# Altium schematic symbol library Modules.SchLib: 71 symbols
Pins are listed as number, name and electrical type; pins without a type are passive.

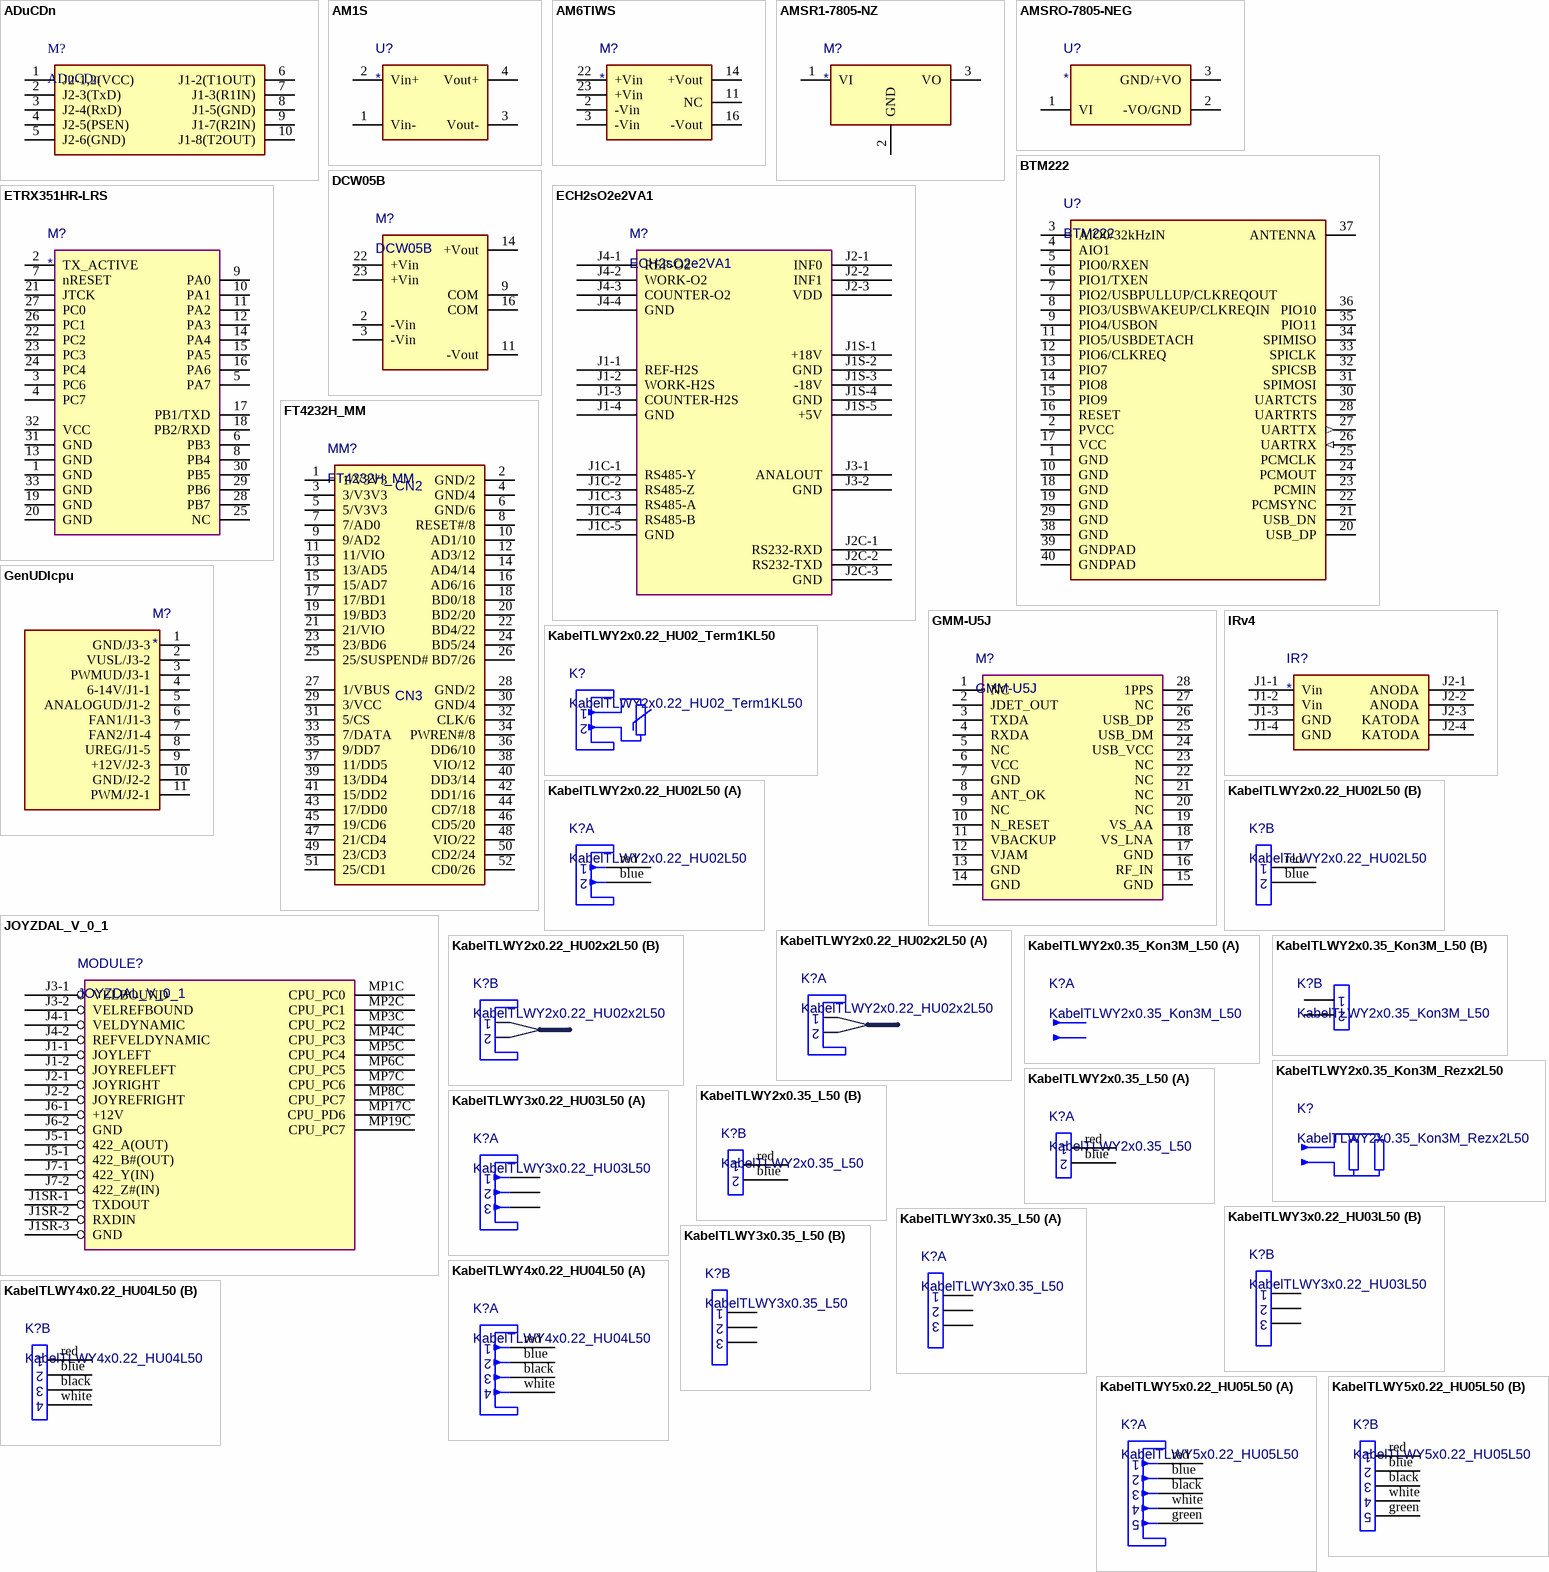
[diagram p0: symbols ADuCDn to KabelTLWY5x0.22_HU05L50]

## ADuCDn
designator M?
Value: ADuCDn
pins: 1 J2-1,2(VCC), 2 J2-3(TxD), 3 J2-4(RxD), 4 J2-5(PSEN), 5 J2-6(GND), 6 J1-2(T1OUT), 7 J1-3(R1IN), 8 J1-5(GND), 9 J1-7(R2IN), 10 J1-8(T2OUT)

## AM1S
designator U?
Value: *
pins: 1 Vin-, 2 Vin+, 3 Vout-, 4 Vout+

## AM6TIWS
designator M?
Value: *
pins: 2 -Vin, 3 -Vin, 11 NC, 14 +Vout, 16 -Vout, 22 +Vin, 23 +Vin

## AMSR1-7805-NZ
designator M?
Value: *
pins: 1 VI, 2 GND, 3 VO

## AMSRO-7805-NEG
designator U?
Value: *
pins: 1 VI, 2 -VO/GND, 3 GND/+VO

## BTM222
designator U?
Value: BTM222
pins: 1 GND, 2 PVCC, 3 AIO0/32kHzIN, 4 AIO1, 5 PIO0/RXEN, 6 PIO1/TXEN, 7 PIO2/USBPULLUP/CLKREQOUT, 8 PIO3/USBWAKEUP/CLKREQIN, 9 PIO4/USBON, 10 GND, 11 PIO5/USBDETACH, 12 PIO6/CLKREQ, 13 PIO7, 14 PIO8, 15 PIO9, 16 RESET, 17 VCC, 18 GND, 19 GND, 20 USB_DP, 21 USB_DN, 22 PCMSYNC, 23 PCMIN, 24 PCMOUT, 25 PCMCLK, 26 UARTRX (in), 27 UARTTX (out), 28 UARTRTS, 29 GND, 30 UARTCTS, 31 SPIMOSI, 32 SPICSB, 33 SPICLK, 34 SPIMISO, 35 PIO11, 36 PIO10, 37 ANTENNA, 38 GND, 39 GNDPAD, 40 GNDPAD

## DCW05B
designator M?
Value: DCW05B
pins: 2 -Vin, 3 -Vin, 9 COM, 11 -Vout, 14 +Vout, 16 COM, 22 +Vin, 23 +Vin

## ECH2sO2e2VA1
designator M?
Value: ECH2sO2e2VA1
pins: J1-1 REF-H2S, J1-2 WORK-H2S, J1-3 COUNTER-H2S, J1-4 GND, J1C-1 RS485-Y, J1C-2 RS485-Z, J1C-3 RS485-A, J1C-4 RS485-B, J1C-5 GND, J1S-1 +18V, J1S-2 GND, J1S-3 -18V, J1S-4 GND, J1S-5 +5V, J2-1 INF0, J2-2 INF1, J2-3 VDD, J2C-1 RS232-RXD, J2C-2 RS232-TXD, J2C-3 GND, J3-1 ANALOUT, J3-2 GND, J4-1 REF-O2, J4-2 WORK-O2, J4-3 COUNTER-O2, J4-4 GND

## ETRX351HR-LRS
designator M?
Value: *
pins: 1 GND, 2 TX_ACTIVE, 3 PC6, 4 PC7, 5 PA7, 6 PB3, 7 nRESET, 8 PB4, 9 PA0, 10 PA1, 11 PA2, 12 PA3, 13 GND, 14 PA4, 15 PA5, 16 PA6, 17 PB1/TXD, 18 PB2/RXD, 19 GND, 20 GND, 21 JTCK, 22 PC2, 23 PC3, 24 PC4, 25 NC, 26 PC1, 27 PC0, 28 PB7, 29 PB6, 30 PB5, 31 GND, 32 VCC, 33 GND

## FT4232H_MM
designator MM?
Value: FT4232H_MM
pins: 1 1/V3V3, 2 GND/2, 3 3/V3V3, 4 GND/4, 5 5/V3V3, 6 GND/6, 7 7/AD0, 8 RESET#/8, 9 9/AD2, 10 AD1/10, 11 11/VIO, 12 AD3/12, 13 13/AD5, 14 AD4/14, 15 15/AD7, 16 AD6/16, 17 17/BD1, 18 BD0/18, 19 19/BD3, 20 BD2/20, 21 21/VIO, 22 BD4/22, 23 23/BD6, 24 BD5/24, 25 25/SUSPEND#, 26 BD7/26, 27 1/VBUS, 28 GND/2, 29 3/VCC, 30 GND/4, 31 5/CS, 32 CLK/6, 33 7/DATA, 34 PWREN#/8, 35 9/DD7, 36 DD6/10, 37 11/DD5, 38 VIO/12, 39 13/DD4, 40 DD3/14, 41 15/DD2, 42 DD1/16, 43 17/DD0, 44 CD7/18, 45 19/CD6, 46 CD5/20, 47 21/CD4, 48 VIO/22, 49 23/CD3, 50 CD2/24, 51 25/CD1, 52 CD0/26
text: CN2; CN3

## GenUDIcpu
designator M?
Value: *
pins: 1 GND/J3-3, 2 VUSL/J3-2, 3 PWMUD/J3-1, 4 6-14V/J1-1, 5 ANALOGUD/J1-2, 6 FAN1/J1-3, 7 FAN2/J1-4, 8 UREG/J1-5, 9 +12V/J2-3, 10 GND/J2-2, 11 PWM/J2-1

## GMM-U5J
designator M?
Value: GMM-U5J
pins: 1 NC, 2 JDET_OUT, 3 TXDA, 4 RXDA, 5 NC, 6 VCC, 7 GND, 8 ANT_OK, 9 NC, 10 N_RESET, 11 VBACKUP, 12 VJAM, 13 GND, 14 GND, 15 GND, 16 RF_IN, 17 GND, 18 VS_LNA, 19 VS_AA, 20 NC, 21 NC, 22 NC, 23 NC, 24 USB_VCC, 25 USB_DM, 26 USB_DP, 27 NC, 28 1PPS

## IRv4
designator IR?
Value: *
pins: J1-1 Vin, J1-2 Vin, J1-3 GND, J1-4 GND, J2-1 ANODA, J2-2 ANODA, J2-3 KATODA, J2-4 KATODA

## JOYZDAL_V_0_1
designator MODULE?
Value: JOYZDAL_V_0_1
pins: J1-1 JOYLEFT, J1-2 JOYREFLEFT, J1SR-1 TXDOUT, J1SR-2 RXDIN, J1SR-3 GND, J2-1 JOYRIGHT, J2-2 JOYREFRIGHT, J3-1 VELBOUND, J3-2 VELREFBOUND, J4-1 VELDYNAMIC, J4-2 REFVELDYNAMIC, J5-1 422_A(OUT), J5-1 422_B#(OUT), J6-1 +12V, J6-2 GND, J7-1 422_Y(IN), J7-2 422_Z#(IN), MP1C CPU_PC0, MP2C CPU_PC1, MP3C CPU_PC2, MP4C CPU_PC3, MP5C CPU_PC4, MP6C CPU_PC5, MP7C CPU_PC6, MP8C CPU_PC7, MP17C CPU_PD6, MP19C CPU_PC7

## KabelTLWY2x0.22_HU02_Term1KL50
designator K?
Value: KabelTLWY2x0.22_HU02_Term1KL50
text: 1; 2

## KabelTLWY2x0.22_HU02L50
designator K?
Value: KabelTLWY2x0.22_HU02L50
part A pins: blue GND, red
part B pins: blue GND, red
part A text: 1; 2
part B text: 1; 2

## KabelTLWY2x0.22_HU02x2L50
designator K?
Value: KabelTLWY2x0.22_HU02x2L50
part A text: 1; 2
part B text: 1; 2

## KabelTLWY2x0.35_Kon3M_L50
designator K?
Value: KabelTLWY2x0.35_Kon3M_L50
part B pins: 9 GND, 10 GND
part B text: 1; 2

## KabelTLWY2x0.35_Kon3M_Rezx2L50
designator K?
Value: KabelTLWY2x0.35_Kon3M_Rezx2L50

## KabelTLWY2x0.35_L50
designator K?
Value: KabelTLWY2x0.35_L50
part A pins: blue GND, red
part B pins: blue GND, red
part A text: 1; 2
part B text: 1; 2

## KabelTLWY3x0.22_HU03L50
designator K?
Value: KabelTLWY3x0.22_HU03L50
part A pins: 9 GND, 9 GND, 10 GND
part B pins: 9 GND, 10 GND, 10 GND
part A text: 1; 2; 3
part B text: 1; 2; 3

## KabelTLWY3x0.35_L50
designator K?
Value: KabelTLWY3x0.35_L50
part A pins: 9 GND, 10 GND, 10 GND
part B pins: 9 GND, 10 GND, 10 GND
part A text: 1; 2; 3
part B text: 1; 2; 3

## KabelTLWY4x0.22_HU04L50
designator K?
Value: KabelTLWY4x0.22_HU04L50
part A pins: black GND, blue GND, red, white GND
part B pins: black GND, blue GND, red, white GND
part A text: 1; 2; 3; 4
part B text: 1; 2; 3; 4

## KabelTLWY5x0.22_HU05L50
designator K?
Value: KabelTLWY5x0.22_HU05L50
part A pins: black GND, blue GND, green GND, red, white GND
part B pins: black GND, blue GND, green GND, red, white GND
part A text: 1; 2; 3; 4; 5
part B text: 1; 2; 3; 4; 5

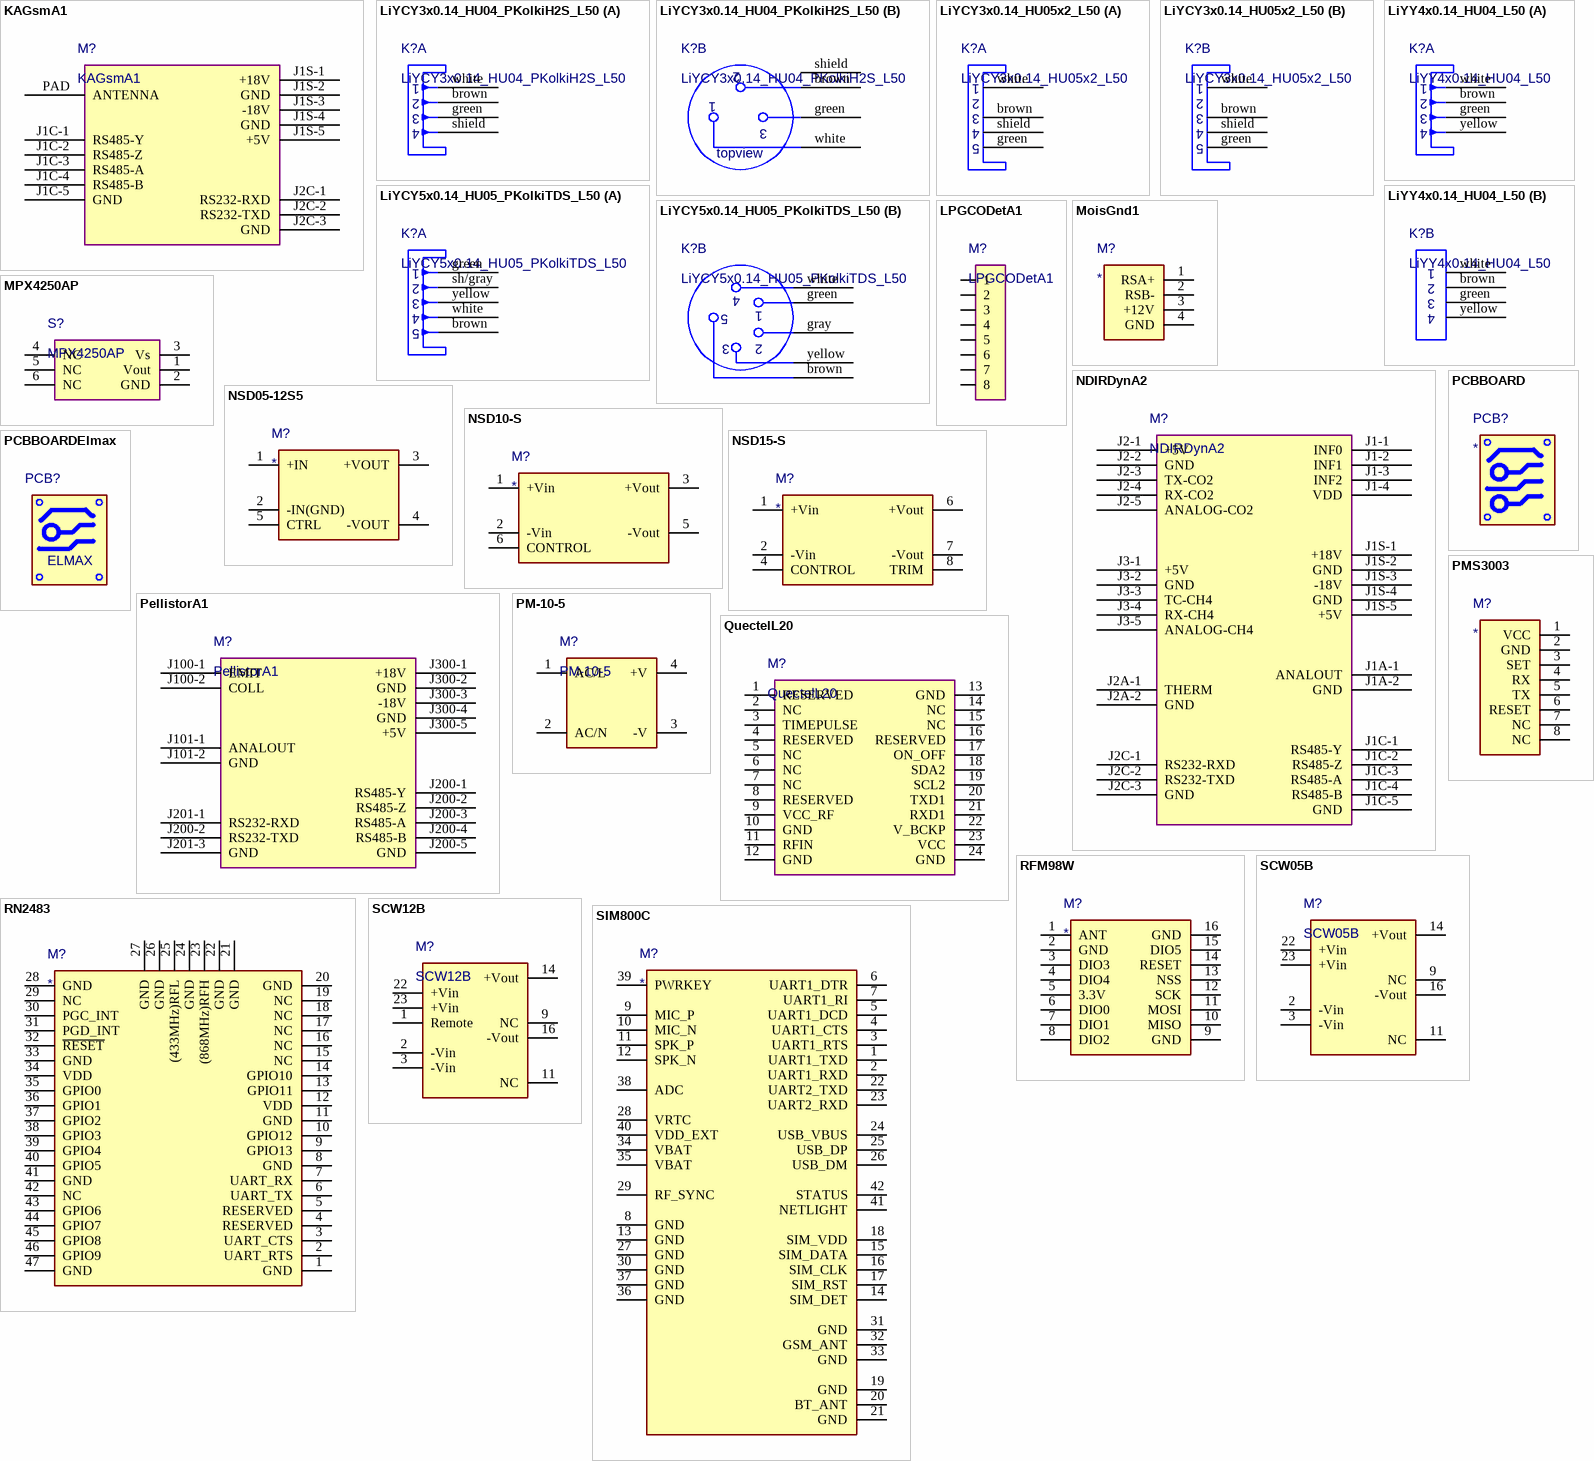
[diagram p1: symbols KAGsmA1 to SIM800C]

## KAGsmA1
designator M?
Value: KAGsmA1
pins: J1C-1 RS485-Y, J1C-2 RS485-Z, J1C-3 RS485-A, J1C-4 RS485-B, J1C-5 GND, J1S-1 +18V, J1S-2 GND, J1S-3 -18V, J1S-4 GND, J1S-5 +5V, J2C-1 RS232-RXD, J2C-2 RS232-TXD, J2C-3 GND, PAD ANTENNA

## LiYCY3x0.14_HU04_PKolkiH2S_L50
designator K?
Value: LiYCY3x0.14_HU04_PKolkiH2S_L50
part A pins: brown, green, shield, white
part B pins: brown, green, shield, white
part A text: 1; 2; 3; 4
part B text: 2; 1; 3; topview

## LiYCY3x0.14_HU05x2_L50
designator K?
Value: LiYCY3x0.14_HU05x2_L50
part A pins: brown GND, green GND, shield GND, white GND
part B pins: brown GND, green GND, shield GND, white GND
part A text: 1; 2; 3; 4; 5
part B text: 1; 2; 3; 4; 5

## LiYCY5x0.14_HU05_PKolkiTDS_L50
designator K?
Value: LiYCY5x0.14_HU05_PKolkiTDS_L50
part A pins: brown, green, sh/gray shield/gray, white, yellow
part B pins: brown, gray, green, white, yellow
part A text: 1; 2; 3; 4; 5
part B text: 4; 5; 1; 3; 2

## LiYY4x0.14_HU04_L50
designator K?
Value: LiYY4x0.14_HU04_L50
part A pins: brown, green, white, yellow
part B pins: brown, green, white, yellow
part A text: 1; 2; 3; 4
part B text: 1; 2; 3; 4

## LPGCODetA1
designator M?
Value: LPGCODetA1
pins: 1, 2, 3, 4, 5, 6, 7, 8

## MoisGnd1
designator M?
Value: *
pins: 1 RSA+, 2 RSB-, 3 +12V, 4 GND

## MPX4250AP
designator S?
Value: MPX4250AP
pins: 1 Vout, 2 GND, 3 Vs, 4 NC, 5 NC, 6 NC

## NDIRDynA2
designator M?
Value: NDIRDynA2
pins: J1-1 INF0, J1-2 INF1, J1-3 INF2, J1-4 VDD, J1A-1 ANALOUT, J1A-2 GND, J1C-1 RS485-Y, J1C-2 RS485-Z, J1C-3 RS485-A, J1C-4 RS485-B, J1C-5 GND, J1S-1 +18V, J1S-2 GND, J1S-3 -18V, J1S-4 GND, J1S-5 +5V, J2-1 +5V, J2-2 GND, J2-3 TX-CO2, J2-4 RX-CO2, J2-5 ANALOG-CO2, J2A-1 THERM, J2A-2 GND, J2C-1 RS232-RXD, J2C-2 RS232-TXD, J2C-3 GND, J3-1 +5V, J3-2 GND, J3-3 TC-CH4, J3-4 RX-CH4, J3-5 ANALOG-CH4

## NSD05-12S5
designator M?
Value: *
pins: 1 +IN, 2 -IN(GND), 3 +VOUT, 4 -VOUT, 5 CTRL

## NSD10-S
designator M?
Value: *
pins: 1 +Vin, 2 -Vin, 3 +Vout, 5 -Vout, 6 CONTROL

## NSD15-S
designator M?
Value: *
pins: 1 +Vin, 2 -Vin, 4 CONTROL, 6 +Vout, 7 -Vout, 8 TRIM

## PCBBOARD
designator PCB?  (mechanical)
Value: *

## PCBBOARDElmax
designator PCB?  (value not drawn)  (mechanical)
Value: *
text: ELMAX

## PellistorA1
designator M?
Value: PellistorA1
pins: J100-1 EMIT, J100-2 COLL, J101-1 ANALOUT, J101-2 GND, J200-1 RS485-Y, J200-2 RS485-Z, J200-2 RS232-TXD, J200-3 RS485-A, J200-4 RS485-B, J200-5 GND, J201-1 RS232-RXD, J201-3 GND, J300-1 +18V, J300-2 GND, J300-3 -18V, J300-4 GND, J300-5 +5V

## PM-10-5
designator M?
Value: PM-10-5
pins: 1 AC/L, 2 AC/N, 3 -V, 4 +V

## PMS3003
designator M?
Value: *
pins: 1 VCC, 2 GND, 3 SET, 4 RX, 5 TX, 6 RESET, 7 NC, 8 NC

## QuectelL20
designator M?
Value: QuectelL20
pins: 1 RESERVED, 2 NC, 3 TIMEPULSE, 4 RESERVED, 5 NC, 6 NC, 7 NC, 8 RESERVED, 9 VCC_RF, 10 GND, 11 RFIN, 12 GND, 13 GND, 14 NC, 15 NC, 16 RESERVED, 17 ON_OFF, 18 SDA2, 19 SCL2, 20 TXD1, 21 RXD1, 22 V_BCKP, 23 VCC, 24 GND

## RFM98W
designator M?
Value: *
pins: 1 ANT, 2 GND, 3 DIO3, 4 DIO4, 5 3.3V, 6 DIO0, 7 DIO1, 8 DIO2, 9 GND, 10 MISO, 11 MOSI, 12 SCK, 13 NSS, 14 RESET, 15 DIO5, 16 GND

## RN2483
designator M?
Value: *
pins: 1 GND, 2 UART_RTS, 3 UART_CTS, 4 RESERVED, 5 RESERVED, 6 UART_TX, 7 UART_RX, 8 GND, 9 GPIO13, 10 GPIO12, 11 GND, 12 VDD, 13 GPIO11, 14 GPIO10, 15 NC, 16 NC, 17 NC, 18 NC, 19 NC, 20 GND, 21 GND, 22 GND, 23 (868MHz)RFH, 24 GND, 25 (433MHz)RFL, 26 GND, 27 GND, 28 GND, 29 NC, 30 PGC_INT, 31 PGD_INT, 32 ~{RESET}, 33 GND, 34 VDD, 35 GPIO0, 36 GPIO1, 37 GPIO2, 38 GPIO3, 39 GPIO4, 40 GPIO5, 41 GND, 42 NC, 43 GPIO6, 44 GPIO7, 45 GPIO8, 46 GPIO9, 47 GND

## SCW05B
designator M?
Value: SCW05B
pins: 2 -Vin, 3 -Vin, 9 NC, 11 NC, 14 +Vout, 16 -Vout, 22 +Vin, 23 +Vin

## SCW12B
designator M?
Value: SCW12B
pins: 1 Remote, 2 -Vin, 3 -Vin, 9 NC, 11 NC, 14 +Vout, 16 -Vout, 22 +Vin, 23 +Vin

## SIM800C
designator M?
Value: *
pins: 1 UART1_TXD, 2 UART1_RXD, 3 UART1_RTS, 4 UART1_CTS, 5 UART1_DCD, 6 UART1_DTR, 7 UART1_RI, 8 GND, 9 MIC_P, 10 MIC_N, 11 SPK_P, 12 SPK_N, 13 GND, 14 SIM_DET, 15 SIM_DATA, 16 SIM_CLK, 17 SIM_RST, 18 SIM_VDD, 19 GND, 20 BT_ANT, 21 GND, 22 UART2_TXD, 23 UART2_RXD, 24 USB_VBUS, 25 USB_DP, 26 USB_DM, 27 GND, 28 VRTC, 29 RF_SYNC, 30 GND, 31 GND, 32 GSM_ANT, 33 GND, 34 VBAT, 35 VBAT, 36 GND, 37 GND, 38 ADC, 39 PWRKEY, 40 VDD_EXT, 41 NETLIGHT, 42 STATUS

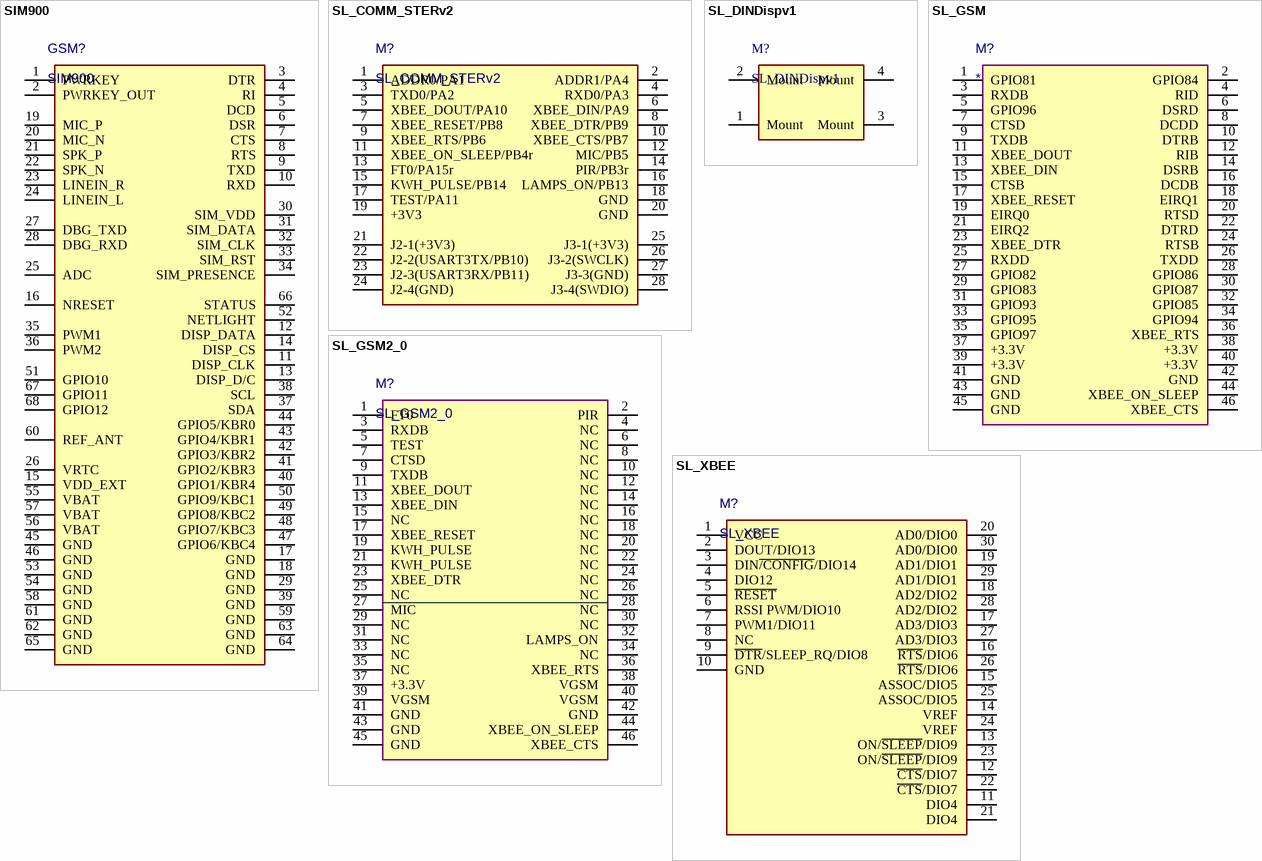
[diagram p2: symbols SIM900 to SL_XBEE]

## SIM900
designator GSM?
Value: SIM900
pins: 1 PWRKEY, 2 PWRKEY_OUT, 3 DTR, 4 RI, 5 DCD, 6 DSR, 7 CTS, 8 RTS, 9 TXD, 10 RXD, 11 DISP_CLK, 12 DISP_DATA, 13 DISP_D/C, 14 DISP_CS, 15 VDD_EXT, 16 NRESET, 17 GND, 18 GND, 19 MIC_P, 20 MIC_N, 21 SPK_P, 22 SPK_N, 23 LINEIN_R, 24 LINEIN_L, 25 ADC, 26 VRTC, 27 DBG_TXD, 28 DBG_RXD, 29 GND, 30 SIM_VDD, 31 SIM_DATA, 32 SIM_CLK, 33 SIM_RST, 34 SIM_PRESENCE, 35 PWM1, 36 PWM2, 37 SDA, 38 SCL, 39 GND, 40 GPIO1/KBR4, 41 GPIO2/KBR3, 42 GPIO3/KBR2, 43 GPIO4/KBR1, 44 GPIO5/KBR0, 45 GND, 46 GND, 47 GPIO6/KBC4, 48 GPIO7/KBC3, 49 GPIO8/KBC2, 50 GPIO9/KBC1, 51 GPIO10, 52 NETLIGHT, 53 GND, 54 GND, 55 VBAT, 56 VBAT, 57 VBAT, 58 GND, 59 GND, 60 REF_ANT, 61 GND, 62 GND, 63 GND, 64 GND, 65 GND, 66 STATUS, 67 GPIO11, 68 GPIO12

## SL_COMM_STERv2
designator M?
Value: SL_COMM_STERv2
pins: 1 ADDR0/PA1, 2 ADDR1/PA4, 3 TXD0/PA2, 4 RXD0/PA3, 5 XBEE_DOUT/PA10, 6 XBEE_DIN/PA9, 7 XBEE_RESET/PB8, 8 XBEE_DTR/PB9, 9 XBEE_RTS/PB6, 10 XBEE_CTS/PB7, 11 XBEE_ON_SLEEP/PB4r, 12 MIC/PB5, 13 FT0/PA15r, 14 PIR/PB3r, 15 KWH_PULSE/PB14, 16 LAMPS_ON/PB13, 17 TEST/PA11, 18 GND, 19 +3V3, 20 GND, 21 J2-1(+3V3), 22 J2-2(USART3TX/PB10), 23 J2-3(USART3RX/PB11), 24 J2-4(GND), 25 J3-1(+3V3), 26 J3-2(SWCLK), 27 J3-3(GND), 28 J3-4(SWDIO)

## SL_DINDispv1
designator M?
Value: SL_DINDispv1
pins: 1 Mount, 2 Mount, 3 Mount, 4 Mount

## SL_GSM
designator M?
Value: SL_GSM
pins: 1 GPIO81, 2 GPIO84, 3 RXDB, 4 RID, 5 GPIO96, 6 DSRD, 7 CTSD, 8 DCDD, 9 TXDB, 10 DTRB, 11 XBEE_DOUT, 12 RIB, 13 XBEE_DIN, 14 DSRB, 15 CTSB, 16 DCDB, 17 XBEE_RESET, 18 EIRQ1, 19 EIRQ0, 20 RTSD, 21 EIRQ2, 22 DTRD, 23 XBEE_DTR, 24 RTSB, 25 RXDD, 26 TXDD, 27 GPIO82, 28 GPIO86, 29 GPIO83, 30 GPIO87, 31 GPIO93, 32 GPIO85, 33 GPIO95, 34 GPIO94, 35 GPIO97, 36 XBEE_RTS, 37 +3.3V, 38 +3.3V, 39 +3.3V, 40 +3.3V, 41 GND, 42 GND, 43 GND, 44 XBEE_ON_SLEEP, 45 GND, 46 XBEE_CTS

## SL_GSM2_0
designator M?
Value: SL_GSM2_0
pins: 1 FT0, 2 PIR, 3 RXDB, 4 NC, 5 TEST, 6 NC, 7 CTSD, 8 NC, 9 TXDB, 10 NC, 11 XBEE_DOUT, 12 NC, 13 XBEE_DIN, 14 NC, 15 NC, 16 NC, 17 XBEE_RESET, 18 NC, 19 KWH_PULSE, 20 NC, 21 KWH_PULSE, 22 NC, 23 XBEE_DTR, 24 NC, 25 NC, 26 NC, 27 MIC, 28 NC, 29 NC, 30 NC, 31 NC, 32 LAMPS_ON, 33 NC, 34 NC, 35 NC, 36 XBEE_RTS, 37 +3.3V, 38 VGSM, 39 VGSM, 40 VGSM, 41 GND, 42 GND, 43 GND, 44 XBEE_ON_SLEEP, 45 GND, 46 XBEE_CTS

## SL_XBEE
designator M?
Value: SL_XBEE
pins: 1 VCC, 2 DOUT/DIO13, 3 DIN~{/CONFIG}/DIO14, 4 DIO12, 5 ~{RESET}, 6 RSSI PWM/DIO10, 7 PWM1/DIO11, 8 NC, 9 ~{DTR}/SLEEP_RQ/DIO8, 10 GND, 11 DIO4, 12 ~{CTS}/DIO7, 13 ON/~{SLEEP}/DIO9, 14 VREF, 15 ASSOC/DIO5, 16 ~{RTS}/DIO6, 17 AD3/DIO3, 18 AD2/DIO2, 19 AD1/DIO1, 20 AD0/DIO0, 21 DIO4, 22 ~{CTS}/DIO7, 23 ON/~{SLEEP}/DIO9, 24 VREF, 25 ASSOC/DIO5, 26 ~{RTS}/DIO6, 27 AD3/DIO3, 28 AD2/DIO2, 29 AD1/DIO1, 30 AD0/DIO0

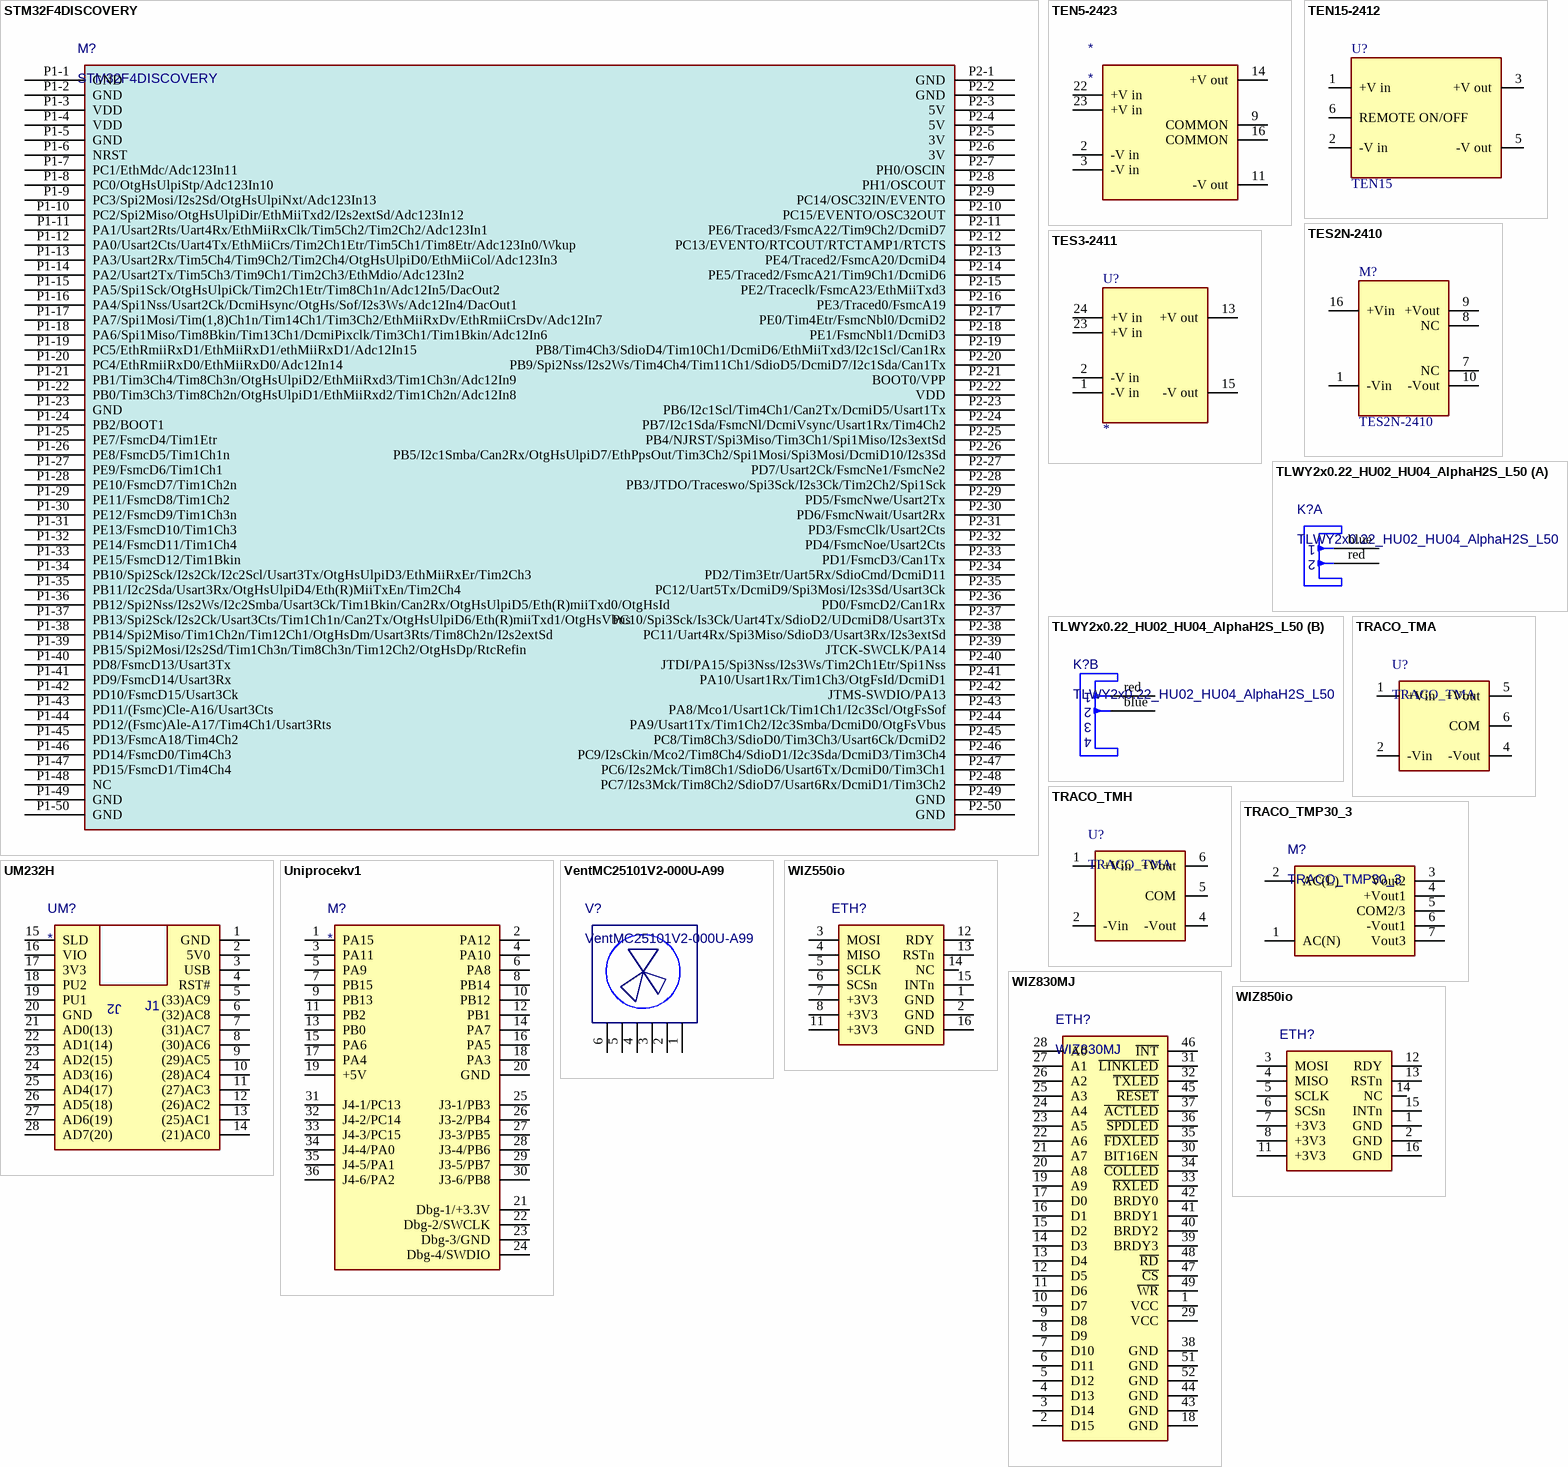
[diagram p3: symbols STM32F4DISCOVERY to WIZ850io]

## STM32F4DISCOVERY
designator M?
Value: STM32F4DISCOVERY
pins: P1-1 GND, P1-2 GND, P1-3 VDD, P1-4 VDD, P1-5 GND, P1-6 NRST, P1-7 PC1/EthMdc/Adc123In11, P1-8 PC0/OtgHsUlpiStp/Adc123In10, P1-9 PC3/Spi2Mosi/I2s2Sd/OtgHsUlpiNxt/Adc123In13, P1-10 PC2/Spi2Miso/OtgHsUlpiDir/EthMiiTxd2/I2s2extSd/Adc123In12, P1-11 PA1/Usart2Rts/Uart4Rx/EthMiiRxClk/Tim5Ch2/Tim2Ch2/Adc123In1, P1-12 PA0/Usart2Cts/Uart4Tx/EthMiiCrs/Tim2Ch1Etr/Tim5Ch1/Tim8Etr/Adc123In0/Wkup, P1-13 PA3/Usart2Rx/Tim5Ch4/Tim9Ch2/Tim2Ch4/OtgHsUlpiD0/EthMiiCol/Adc123In3, P1-14 PA2/Usart2Tx/Tim5Ch3/Tim9Ch1/Tim2Ch3/EthMdio/Adc123In2, P1-15 PA5/Spi1Sck/OtgHsUlpiCk/Tim2Ch1Etr/Tim8Ch1n/Adc12In5/DacOut2, P1-16 PA4/Spi1Nss/Usart2Ck/DcmiHsync/OtgHs/Sof/I2s3Ws/Adc12In4/DacOut1, P1-17 PA7/Spi1Mosi/Tim(1,8)Ch1n/Tim14Ch1/Tim3Ch2/EthMiiRxDv/EthRmiiCrsDv/Adc12In7, P1-18 PA6/Spi1Miso/Tim8Bkin/Tim13Ch1/DcmiPixclk/Tim3Ch1/Tim1Bkin/Adc12In6, P1-19 PC5/EthRmiiRxD1/EthMiiRxD1/ethMiiRxD1/Adc12In15, P1-20 PC4/EthRmiiRxD0/EthMiiRxD0/Adc12In14, P1-21 PB1/Tim3Ch4/Tim8Ch3n/OtgHsUlpiD2/EthMiiRxd3/Tim1Ch3n/Adc12In9, P1-22 PB0/Tim3Ch3/Tim8Ch2n/OtgHsUlpiD1/EthMiiRxd2/Tim1Ch2n/Adc12In8, P1-23 GND, P1-24 PB2/BOOT1, P1-25 PE7/FsmcD4/Tim1Etr, P1-26 PE8/FsmcD5/Tim1Ch1n, P1-27 PE9/FsmcD6/Tim1Ch1, P1-28 PE10/FsmcD7/Tim1Ch2n, P1-29 PE11/FsmcD8/Tim1Ch2, P1-30 PE12/FsmcD9/Tim1Ch3n, P1-31 PE13/FsmcD10/Tim1Ch3, P1-32 PE14/FsmcD11/Tim1Ch4, P1-33 PE15/FsmcD12/Tim1Bkin, P1-34 PB10/Spi2Sck/I2s2Ck/I2c2Scl/Usart3Tx/OtgHsUlpiD3/EthMiiRxEr/Tim2Ch3, P1-35 PB11/I2c2Sda/Usart3Rx/OtgHsUlpiD4/Eth(R)MiiTxEn/Tim2Ch4, P1-36 PB12/Spi2Nss/I2s2Ws/I2c2Smba/Usart3Ck/Tim1Bkin/Can2Rx/OtgHsUlpiD5/Eth(R)miiTxd0/OtgHsId, P1-37 PB13/Spi2Sck/I2s2Ck/Usart3Cts/Tim1Ch1n/Can2Tx/OtgHsUlpiD6/Eth(R)miiTxd1/OtgHsVbus, P1-38 PB14/Spi2Miso/Tim1Ch2n/Tim12Ch1/OtgHsDm/Usart3Rts/Tim8Ch2n/I2s2extSd, P1-39 PB15/Spi2Mosi/I2s2Sd/Tim1Ch3n/Tim8Ch3n/Tim12Ch2/OtgHsDp/RtcRefin, P1-40 PD8/FsmcD13/Usart3Tx, P1-41 PD9/FsmcD14/Usart3Rx, P1-42 PD10/FsmcD15/Usart3Ck, P1-43 PD11/(Fsmc)Cle-A16/Usart3Cts, P1-44 PD12/(Fsmc)Ale-A17/Tim4Ch1/Usart3Rts, P1-45 PD13/FsmcA18/Tim4Ch2, P1-46 PD14/FsmcD0/Tim4Ch3, P1-47 PD15/FsmcD1/Tim4Ch4, P1-48 NC, P1-49 GND, P1-50 GND, P2-1 GND, P2-2 GND, P2-3 5V, P2-4 5V, P2-5 3V, P2-6 3V, P2-7 PH0/OSCIN, P2-8 PH1/OSCOUT, P2-9 PC14/OSC32IN/EVENTO, P2-10 PC15/EVENTO/OSC32OUT, P2-11 PE6/Traced3/FsmcA22/Tim9Ch2/DcmiD7, P2-12 PC13/EVENTO/RTCOUT/RTCTAMP1/RTCTS, P2-13 PE4/Traced2/FsmcA20/DcmiD4, P2-14 PE5/Traced2/FsmcA21/Tim9Ch1/DcmiD6, P2-15 PE2/Traceclk/FsmcA23/EthMiiTxd3, P2-16 PE3/Traced0/FsmcA19, P2-17 PE0/Tim4Etr/FsmcNbl0/DcmiD2, P2-18 PE1/FsmcNbl1/DcmiD3, P2-19 PB8/Tim4Ch3/SdioD4/Tim10Ch1/DcmiD6/EthMiiTxd3/I2c1Scl/Can1Rx, P2-20 PB9/Spi2Nss/I2s2Ws/Tim4Ch4/Tim11Ch1/SdioD5/DcmiD7/I2c1Sda/Can1Tx, P2-21 BOOT0/VPP, P2-22 VDD, P2-23 PB6/I2c1Scl/Tim4Ch1/Can2Tx/DcmiD5/Usart1Tx, P2-24 PB7/I2c1Sda/FsmcNl/DcmiVsync/Usart1Rx/Tim4Ch2, P2-25 PB4/NJRST/Spi3Miso/Tim3Ch1/Spi1Miso/I2s3extSd, P2-26 PB5/I2c1Smba/Can2Rx/OtgHsUlpiD7/EthPpsOut/Tim3Ch2/Spi1Mosi/Spi3Mosi/DcmiD10/I2s3Sd, P2-27 PD7/Usart2Ck/FsmcNe1/FsmcNe2, P2-28 PB3/JTDO/Traceswo/Spi3Sck/I2s3Ck/Tim2Ch2/Spi1Sck, P2-29 PD5/FsmcNwe/Usart2Tx, P2-30 PD6/FsmcNwait/Usart2Rx, P2-31 PD3/FsmcClk/Usart2Cts, P2-32 PD4/FsmcNoe/Usart2Cts, P2-33 PD1/FsmcD3/Can1Tx, P2-34 PD2/Tim3Etr/Uart5Rx/SdioCmd/DcmiD11, P2-35 PC12/Uart5Tx/DcmiD9/Spi3Mosi/I2s3Sd/Usart3Ck, P2-36 PD0/FsmcD2/Can1Rx, P2-37 PC10/Spi3Sck/Is3Ck/Uart4Tx/SdioD2/UDcmiD8/Usart3Tx, P2-38 PC11/Uart4Rx/Spi3Miso/SdioD3/Usart3Rx/I2s3extSd, P2-39 JTCK-SWCLK/PA14, P2-40 JTDI/PA15/Spi3Nss/I2s3Ws/Tim2Ch1Etr/Spi1Nss, P2-41 PA10/Usart1Rx/Tim1Ch3/OtgFsId/DcmiD1, P2-42 JTMS-SWDIO/PA13, P2-43 PA8/Mco1/Usart1Ck/Tim1Ch1/I2c3Scl/OtgFsSof, P2-44 PA9/Usart1Tx/Tim1Ch2/I2c3Smba/DcmiD0/OtgFsVbus, P2-45 PC8/Tim8Ch3/SdioD0/Tim3Ch3/Usart6Ck/DcmiD2, P2-46 PC9/I2sCkin/Mco2/Tim8Ch4/SdioD1/I2c3Sda/DcmiD3/Tim3Ch4, P2-47 PC6/I2s2Mck/Tim8Ch1/SdioD6/Usart6Tx/DcmiD0/Tim3Ch1, P2-48 PC7/I2s3Mck/Tim8Ch2/SdioD7/Usart6Rx/DcmiD1/Tim3Ch2, P2-49 GND, P2-50 GND

## TEN5-2423
designator *
pins: 2 -V in, 3 -V in, 9 COMMON, 11 -V out, 14 +V out, 16 COMMON, 22 +V in, 23 +V in

## TEN15-2412
designator U?, comment TEN15
Value: TEN15
pins: 1 +V in, 2 -V in, 3 +V out, 5 -V out, 6 REMOTE ON/OFF

## TES2N-2410
designator M?
DC-DC Converter isolated 24V/3.3V; Value: TES2N-2410
pins: 1 -Vin, 7 NC, 8 NC, 9 +Vout, 10 -Vout, 16 +Vin

## TES3-2411
designator U?
footprint TES3
pins: 1 -V in, 2 -V in, 13 +V out, 15 -V out, 23 +V in, 24 +V in

## TLWY2x0.22_HU02_HU04_AlphaH2S_L50
designator K?
Value: TLWY2x0.22_HU02_HU04_AlphaH2S_L50
part A pins: blue GND, red
part B pins: blue GND, red
part A text: 1; 2
part B text: 1; 2; 3; 4

## TRACO_TMA
designator U?
Value: TRACO_TMA
pins: 1 +Vin, 2 -Vin, 4 -Vout, 5 +Vout, 6 COM

## TRACO_TMH
designator U?, comment TRACO_TMA
Value: TRACO_TMA
pins: 1 +Vin, 2 -Vin, 4 -Vout, 5 COM, 6 +Vout

## TRACO_TMP30_3
designator M?
Value: TRACO_TMP30_3
pins: 1 AC(N), 2 AC(L), 3 Vout2, 4 +Vout1, 5 COM2/3, 6 -Vout1, 7 Vout3

## UM232H
designator UM?
Value: *
pins: 1 GND, 2 5V0, 3 USB, 4 RST#, 5 (33)AC9, 6 (32)AC8, 7 (31)AC7, 8 (30)AC6, 9 (29)AC5, 10 (28)AC4, 11 (27)AC3, 12 (26)AC2, 13 (25)AC1, 14 (21)AC0, 15 SLD, 16 VIO, 17 3V3, 18 PU2, 19 PU1, 20 GND, 21 AD0(13), 22 AD1(14), 23 AD2(15), 24 AD3(16), 25 AD4(17), 26 AD5(18), 27 AD6(19), 28 AD7(20)
text: J2; J1

## Uniprocekv1
designator M?
Value: *
pins: 1 PA15, 2 PA12, 3 PA11, 4 PA10, 5 PA9, 6 PA8, 7 PB15, 8 PB14, 9 PB13, 10 PB12, 11 PB2, 12 PB1, 13 PB0, 14 PA7, 15 PA6, 16 PA5, 17 PA4, 18 PA3, 19 +5V, 20 GND, 21 Dbg-1/+3.3V, 22 Dbg-2/SWCLK, 23 Dbg-3/GND, 24 Dbg-4/SWDIO, 25 J3-1/PB3, 26 J3-2/PB4, 27 J3-3/PB5, 28 J3-4/PB6, 29 J3-5/PB7, 30 J3-6/PB8, 31 J4-1/PC13, 32 J4-2/PC14, 33 J4-3/PC15, 34 J4-4/PA0, 35 J4-5/PA1, 36 J4-6/PA2

## VentMC25101V2-000U-A99
designator V?
Value: VentMC25101V2-000U-A99
pins: 1, 2, 3, 4, 5, 6

## WIZ550io
designator ETH?
pins: 1 GND, 2 GND, 3 MOSI, 4 MISO, 5 SCLK, 6 SCSn, 7 +3V3, 8 +3V3, 11 +3V3, 12 RDY, 13 RSTn, 14 NC, 15 INTn, 16 GND

## WIZ830MJ
designator ETH?
Value: WIZ830MJ
pins: 1 VCC, 2 D15, 3 D14, 4 D13, 5 D12, 6 D11, 7 D10, 8 D9, 9 D8, 10 D7, 11 D6, 12 D5, 13 D4, 14 D3, 15 D2, 16 D1, 17 D0, 18 GND, 19 A9, 20 A8, 21 A7, 22 A6, 23 A5, 24 A4, 25 A3, 26 A2, 27 A1, 28 A0, 29 VCC, 30 BIT16EN, 31 ~{LINKLED}, 32 ~{TXLED}, 33 ~{RXLED}, 34 ~{COLLED}, 35 ~{FDXLED}, 36 ~{SPDLED}, 37 ~{ACTLED}, 38 GND, 39 BRDY3, 40 BRDY2, 41 BRDY1, 42 BRDY0, 43 GND, 44 GND, 45 ~{RESET}, 46 ~{INT}, 47 ~{CS}, 48 ~{RD}, 49 ~{WR}, 51 GND, 52 GND

## WIZ850io
designator ETH?
pins: 1 GND, 2 GND, 3 MOSI, 4 MISO, 5 SCLK, 6 SCSn, 7 +3V3, 8 +3V3, 11 +3V3, 12 RDY, 13 RSTn, 14 NC, 15 INTn, 16 GND

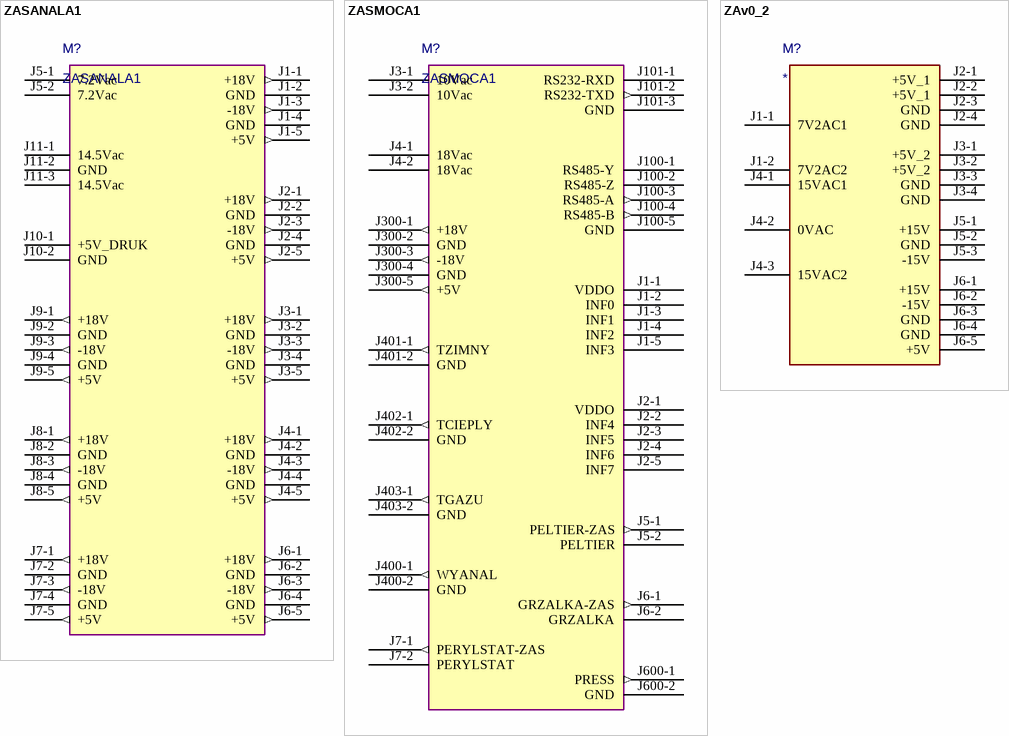
[diagram p4: symbols ZASANALA1 to ZAv0_2]

## ZASANALA1
designator M?
Value: ZASANALA1
pins: J1-1 +18V (out), J1-2 GND, J1-3 -18V (out), J1-4 GND, J1-5 +5V (out), J2-1 +18V (out), J2-2 GND, J2-3 -18V (out), J2-4 GND, J2-5 +5V (out), J3-1 +18V (out), J3-2 GND, J3-3 -18V (out), J3-4 GND, J3-5 +5V (out), J4-1 +18V (out), J4-2 GND, J4-3 -18V (out), J4-4 GND, J4-5 +5V (out), J5-1 7.2Vac, J5-2 7.2Vac, J6-1 +18V (out), J6-2 GND, J6-3 -18V (out), J6-4 GND, J6-5 +5V (out), J7-1 +18V (out), J7-2 GND, J7-3 -18V (out), J7-4 GND, J7-5 +5V (out), J8-1 +18V (out), J8-2 GND, J8-3 -18V (out), J8-4 GND, J8-5 +5V (out), J9-1 +18V (out), J9-2 GND, J9-3 -18V (out), J9-4 GND, J9-5 +5V (out), J10-1 +5V_DRUK, J10-2 GND, J11-1 14.5Vac, J11-2 GND, J11-3 14.5Vac

## ZASMOCA1
designator M?
Value: ZASMOCA1
pins: J1-1 VDDO, J1-2 INF0, J1-3 INF1, J1-4 INF2, J1-5 INF3, J2-1 VDDO, J2-2 INF4, J2-3 INF5, J2-4 INF6, J2-5 INF7, J3-1 10Vac, J3-2 10Vac, J4-1 18Vac, J4-2 18Vac, J5-1 PELTIER-ZAS (out), J5-2 PELTIER, J6-1 GRZALKA-ZAS (out), J6-2 GRZALKA, J7-1 PERYLSTAT-ZAS (out), J7-2 PERYLSTAT, J100-1 RS485-Y, J100-2 RS485-Z, J100-3 RS485-A (out), J100-4 RS485-B (out), J100-5 GND, J101-1 RS232-RXD, J101-2 RS232-TXD (out), J101-3 GND, J300-1 +18V (out), J300-2 GND, J300-3 -18V (out), J300-4 GND, J300-5 +5V (out), J400-1 WYANAL (out), J400-2 GND, J401-1 TZIMNY (out), J401-2 GND, J402-1 TCIEPLY (out), J402-2 GND, J403-1 TGAZU (out), J403-2 GND, J600-1 PRESS (out), J600-2 GND

## ZAv0_2
designator M?
Value: *
pins: J1-1 7V2AC1, J1-2 7V2AC2, J2-1 +5V_1, J2-2 +5V_1, J2-3 GND, J2-4 GND, J3-1 +5V_2, J3-2 +5V_2, J3-3 GND, J3-4 GND, J4-1 15VAC1, J4-2 0VAC, J4-3 15VAC2, J5-1 +15V, J5-2 GND, J5-3 -15V, J6-1 +15V, J6-2 -15V, J6-3 GND, J6-4 GND, J6-5 +5V